# Altium schematic symbol library INA3221AIRGV.SchLib: 1 symbol
Pins are listed as number, name and electrical type; pins without a type are passive.

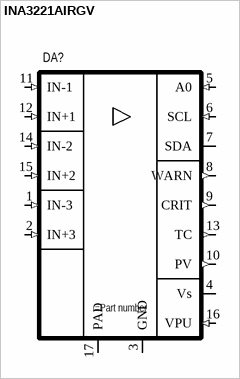
[diagram p0: symbol INA3221AIRGV]

## INA3221AIRGV
designator DA?
Triple-Channel, High-Side Measurement, Shunt and Bus Voltage Monitor with I2C- and SMBUS-Compatible Interface
pins: 1 IN-3 (in), 2 IN+3 (in), 3 GND (power), 4 Vs (power), 5 A0 (in), 6 SCL (in), 7 SDA (io), 8 WARN (out), 9 CRIT (out), 10 PV (out), 11 IN-1 (in), 12 IN+1 (in), 13 TC (out), 14 IN-2 (in), 15 IN+2 (in), 16 VPU (in), 17 PAD